# Altium schematic symbol library librarySDcard.SchLib: 1 symbol
Pins are listed as number, name and electrical type; pins without a type are passive.

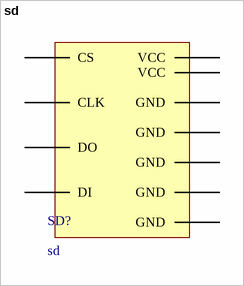
[diagram p0: symbol sd]

## sd
designator SD?
footprint MC/SM2.5-4H9 (Connector; SD Card Type A, SM, 9 Position, Right Angle, Pitch 2.5 mm, Body 23.3 x 27.4 x 3.4 mm (LxWxH))
pins: 1 CS, 2 DI, 3 GND, 4 VCC, 5 CLK, 6 GND, 7 DO, 8 GND, 10 GND, 11 VCC, 12 GND